# Altium integrated library 5-146281-3.IntLib: 1 symbol
Pins are listed as number, name and electrical type; pins without a type are passive.

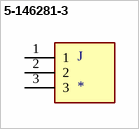
[diagram p0: symbol 5-146281-3]

## 5-146281-3
designator J
Header; Conn; Interconnect System; PCB Plug; 3 Cont; Thru-Hole; Breakaway; Straight; 3A; Centerline_Pitch: 2.54 mm[.1 in]; MP: 5-146281-3; Number_of_Positions: 3; MF: TE Connectivity; Product_Type: Connector; TE_purchase_URL: https://www.te.com/usa-en/product-5-146281-3.html?te_bu=Cor&te_type=disp&te_campaign=seda_glo_cor-seda-global-disp-prtnr-fy19-seda-model-bom-cta_sma-317_1&elqCampaignId=32493; SnapEDA_Link: https://www.snapeda.com/parts/5-146281-3/TE%20Connectivity%20AMP%20Connectors/view-part/460785/?ref=snap; Availability: Unavailable; EU_RoHS_Compliance: Compliant; Value: *; Price: None; Package: None
footprint TE_5-146281-3
pins: 1, 2, 3